# Altium footprint library Footprint.PcbLib: 33 footprints (part 3 of 3)
Each footprint in its own frame and in the unit in brackets; x right, y up, seen from the top. Pads: shape width x height; smd on the part's side, far side on the other; paste and mask are expansions set on the pad; w line width, h text height; cw(c..) or ccw(c..) is an arc to the next point about the centre after c.
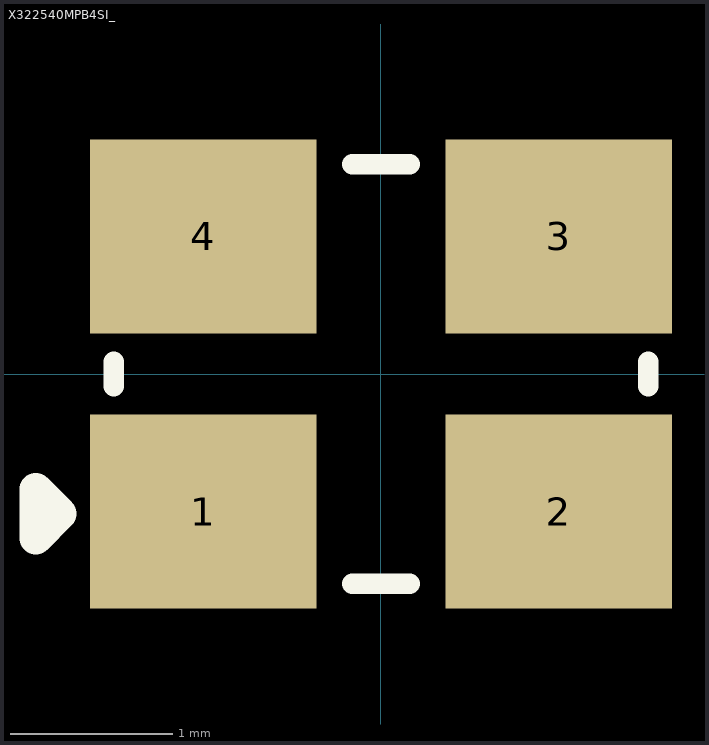
[diagram p2: the footprint, top view; thin cyan lines are the x and y axes]

## X322540MPB4SI_ [mm]
pads (4):
  rect 1.4x1.2 smd: 1(-1.1,-0.85) 2(1.1,-0.85) 3(1.1,0.85) 4(-1.1,0.85)
Top Overlay:
  lines w0.127: -1.651,-0.076 -1.651,0.076 ; -0.178,-1.295 0.178,-1.295 ; -0.178,1.295 0.178,1.295 ; 1.651,-0.076 1.651,0.076
  lines w0.2: -2.134,-1.016 -2.134,-0.711 -1.981,-0.864 -2.134,-1.016
3D body "ABM8-24.000MHZ-R60-D-1-W-T.STEP": height 0.8, standoff 0, extent -1.6,-1.25 1.6,1.25